# Altium schematic symbol library mySchlib.SchLib: 236 symbols (part 2 of 2)
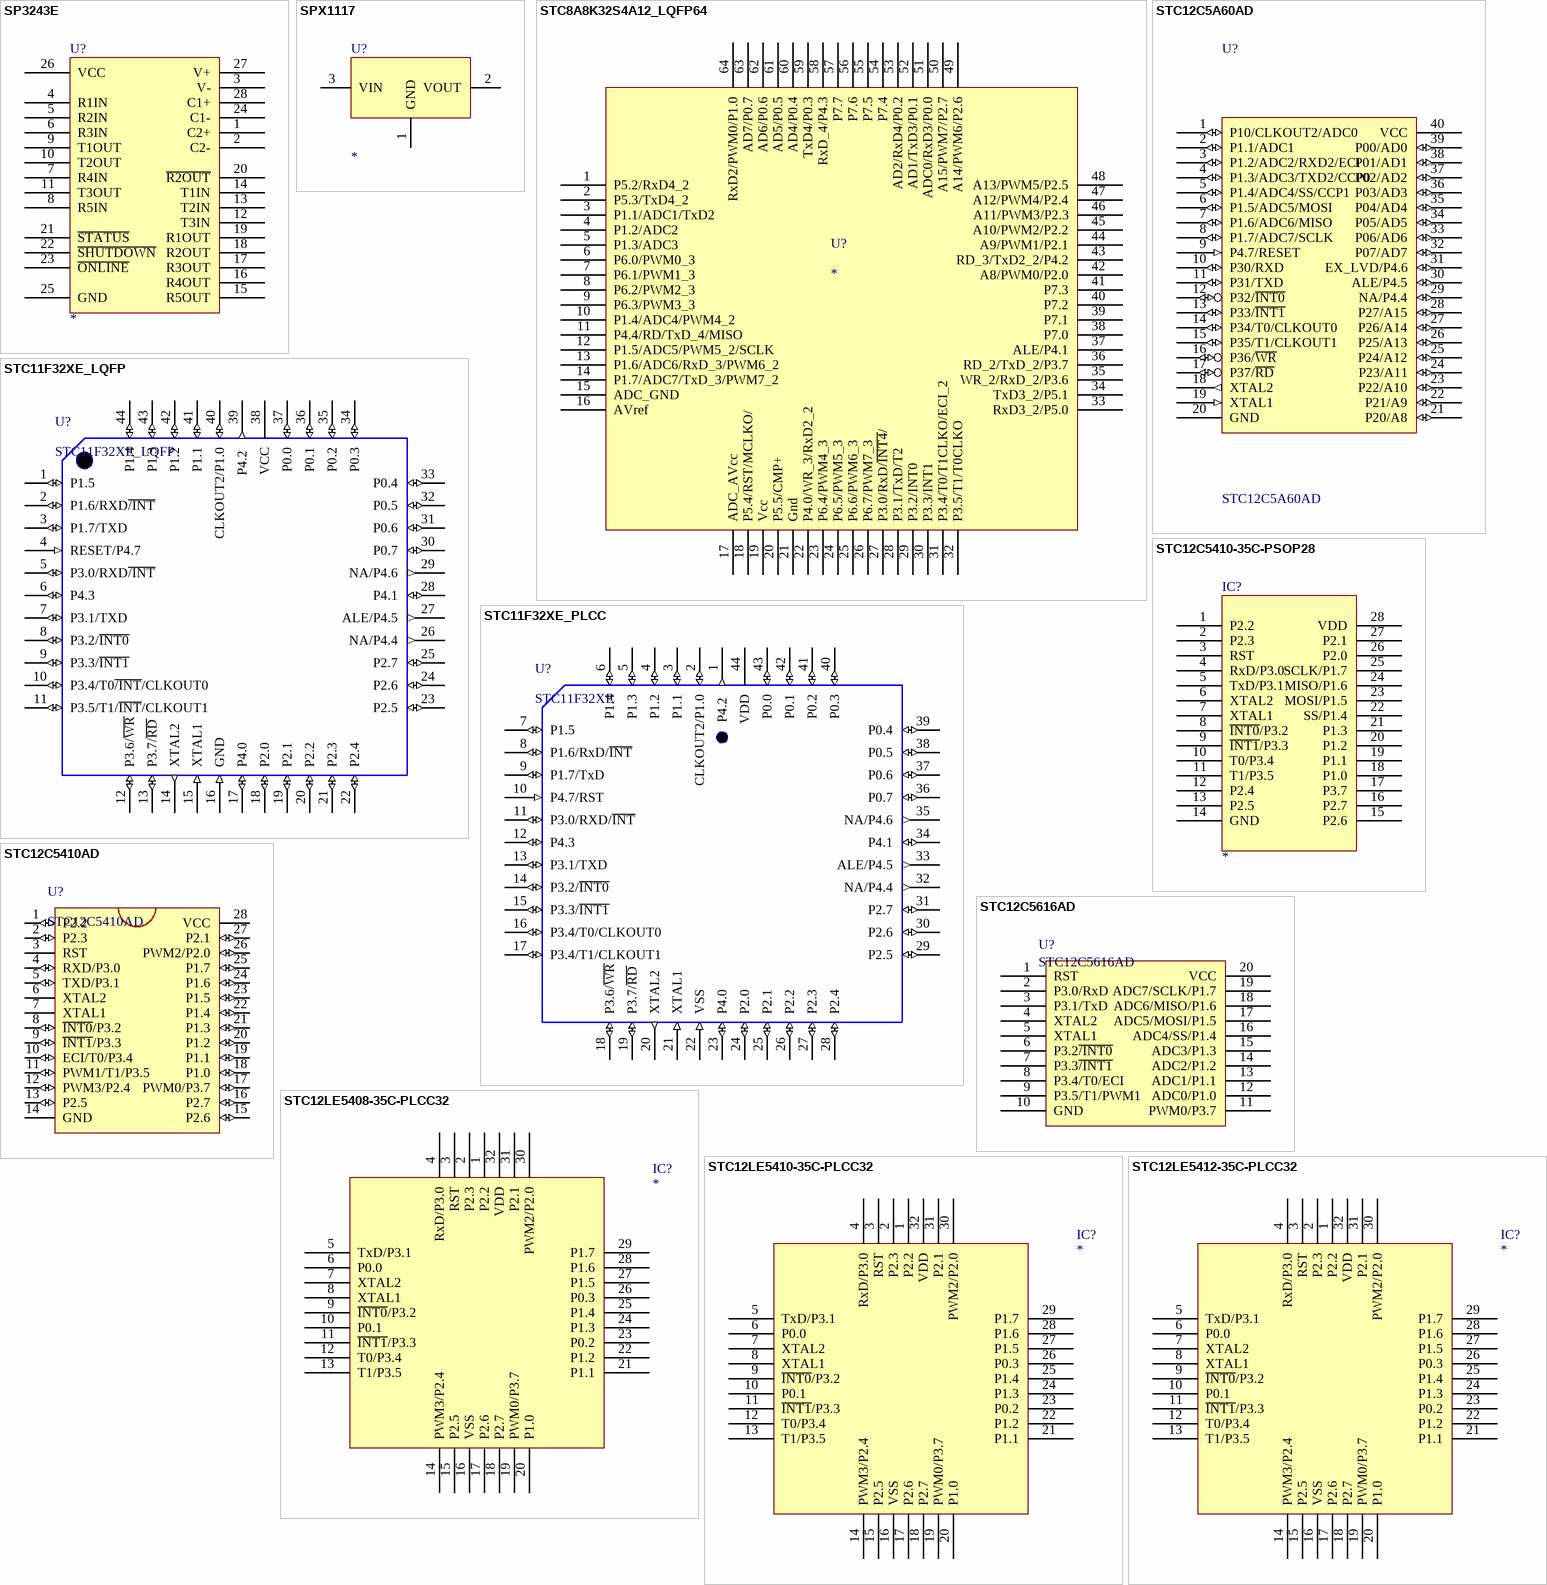
[diagram p14: symbols SP3243E to STC12LE5412-35C-PLCC32]

## STC12C5410-35C-PSOP28
designator IC?
footprint SOP-28
footprint DIP-28
pins: 1 P2.2, 2 P2.3, 3 RST, 4 RxD/P3.0, 5 TxD/P3.1, 6 XTAL2, 7 XTAL1, 8 ~{INT0}/P3.2, 9 ~{INT1}/P3.3, 10 T0/P3.4, 11 T1/P3.5, 12 P2.4, 13 P2.5, 14 GND, 15 P2.6, 16 P2.7, 17 P3.7, 18 P1.0, 19 P1.1, 20 P1.2, 21 P1.3, 22 SS/P1.4, 23 MOSI/P1.5, 24 MISO/P1.6, 25 SCLK/P1.7, 26 P2.0, 27 P2.1, 28 VDD

## STC12C5410AD
designator U?
pins: 1 P2.2 (io), 2 P2.3 (io), 3 RST, 4 RXD/P3.0 (io), 5 TXD/P3.1 (io), 6 XTAL2, 7 XTAL1, 8 ~{INT0}/P3.2 (io), 9 ~{INT1}/P3.3 (io), 10 ECI/T0/P3.4 (io), 11 PWM1/T1/P3.5 (io), 12 PWM3/P2.4 (io), 13 P2.5 (io), 14 GND (power), 15 P2.6 (io), 16 P2.7 (io), 17 PWM0/P3.7 (io), 18 P1.0 (io), 19 P1.1 (io), 20 P1.2 (io), 21 P1.3 (io), 22 P1.4 (io), 23 P1.5 (io), 24 P1.6 (io), 25 P1.7 (io), 26 PWM2/P2.0 (io), 27 P2.1 (io), 28 VCC (power)

## STC12C5616AD
designator U?
footprint STC-SOP20
pins: 1 RST, 2 P3.0/RxD, 3 P3.1/TxD, 4 XTAL2, 5 XTAL1, 6 P3.2~{/INT0}, 7 P3.3~{/INT1}, 8 P3.4/T0/ECI, 9 P3.5/T1/PWM1, 10 GND, 11 PWM0/P3.7, 12 ADC0/P1.0, 13 ADC1/P1.1, 14 ADC2/P1.2, 15 ADC3/P1.3, 16 ADC4/SS/P1.4, 17 ADC5/MOSI/P1.5, 18 ADC6/MISO/P1.6, 19 ADC7/SCLK/P1.7, 20 VCC

## STC12LE5408-35C-PLCC32
designator IC?
footprint TQFP32
pins: 1 P2.2, 2 P2.3, 3 RST, 4 RxD/P3.0, 5 TxD/P3.1, 6 P0.0, 7 XTAL2, 8 XTAL1, 9 ~{INT0}/P3.2, 10 P0.1, 11 ~{INT1}/P3.3, 12 T0/P3.4, 13 T1/P3.5, 14 PWM3/P2.4, 15 P2.5, 16 VSS, 17 P2.6, 18 P2.7, 19 PWM0/P3.7, 20 P1.0, 21 P1.1, 22 P1.2, 23 P0.2, 24 P1.3, 25 P1.4, 26 P0.3, 27 P1.5, 28 P1.6, 29 P1.7, 30 PWM2/P2.0, 31 P2.1, 32 VDD

## STC12LE5410-35C-PLCC32
designator IC?
footprint TQFP32
pins: 1 P2.2, 2 P2.3, 3 RST, 4 RxD/P3.0, 5 TxD/P3.1, 6 P0.0, 7 XTAL2, 8 XTAL1, 9 ~{INT0}/P3.2, 10 P0.1, 11 ~{INT1}/P3.3, 12 T0/P3.4, 13 T1/P3.5, 14 PWM3/P2.4, 15 P2.5, 16 VSS, 17 P2.6, 18 P2.7, 19 PWM0/P3.7, 20 P1.0, 21 P1.1, 22 P1.2, 23 P0.2, 24 P1.3, 25 P1.4, 26 P0.3, 27 P1.5, 28 P1.6, 29 P1.7, 30 PWM2/P2.0, 31 P2.1, 32 VDD

## STC12LE5412-35C-PLCC32
designator IC?
footprint TQFP32
pins: 1 P2.2, 2 P2.3, 3 RST, 4 RxD/P3.0, 5 TxD/P3.1, 6 P0.0, 7 XTAL2, 8 XTAL1, 9 ~{INT0}/P3.2, 10 P0.1, 11 ~{INT1}/P3.3, 12 T0/P3.4, 13 T1/P3.5, 14 PWM3/P2.4, 15 P2.5, 16 VSS, 17 P2.6, 18 P2.7, 19 PWM0/P3.7, 20 P1.0, 21 P1.1, 22 P1.2, 23 P0.2, 24 P1.3, 25 P1.4, 26 P0.3, 27 P1.5, 28 P1.6, 29 P1.7, 30 PWM2/P2.0, 31 P2.1, 32 VDD

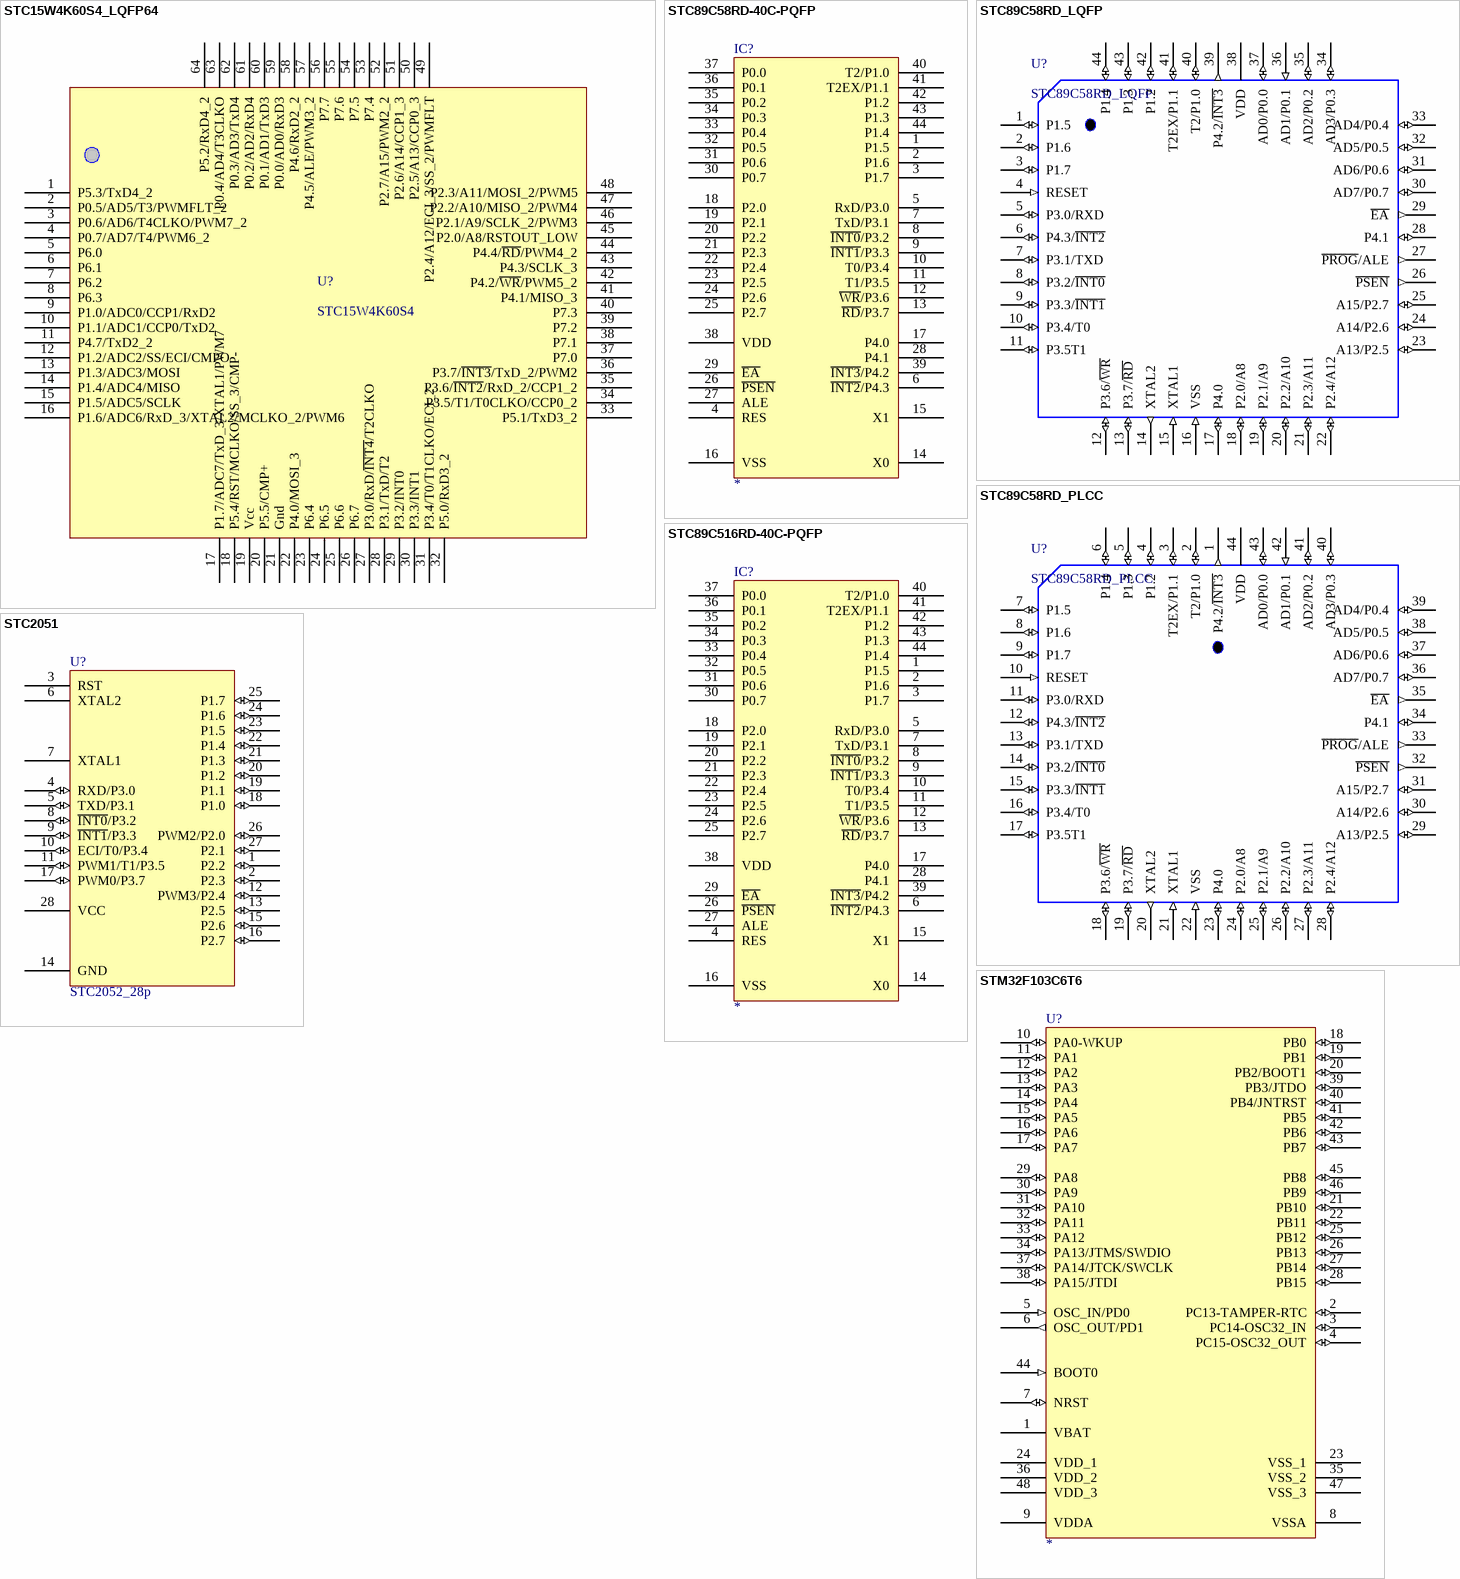
[diagram p8: symbols STC15W4K60S4_LQFP64 to STM32F103C6T6]

## STC15W4K60S4_LQFP64
designator U?, comment STC15W4K60S4
footprint LQFP64S
pins: 1 P5.3/TxD4_2, 2 P0.5/AD5/T3/PWMFLT_2, 3 P0.6/AD6/T4CLKO/PWM7_2, 4 P0.7/AD7/T4/PWM6_2, 5 P6.0, 6 P6.1, 7 P6.2, 8 P6.3, 9 P1.0/ADC0/CCP1/RxD2, 10 P1.1/ADC1/CCP0/TxD2, 11 P4.7/TxD2_2, 12 P1.2/ADC2/SS/ECI/CMPO, 13 P1.3/ADC3/MOSI, 14 P1.4/ADC4/MISO, 15 P1.5/ADC5/SCLK, 16 P1.6/ADC6/RxD_3/XTAL2/MCLKO_2/PWM6, 17 P1.7/ADC7/TxD_3/XTAL1/PWM7, 18 P5.4/RST/MCLKO/SS_3/CMP-, 19 Vcc, 20 P5.5/CMP+, 21 Gnd, 22 P4.0/MOSI_3, 23 P6.4, 24 P6.5, 25 P6.6, 26 P6.7, 27 P3.0/RxD/~{INT4}/T2CLKO, 28 P3.1/TxD/T2, 29 P3.2/INT0, 30 P3.3/INT1, 31 P3.4/T0/T1CLKO/ECI_2, 32 P5.0/RxD3_2, 33 P5.1/TxD3_2, 34 P3.5/T1/T0CLKO/CCP0_2, 35 P3.6/~{INT2}/RxD_2/CCP1_2, 36 P3.7/~{INT3}/TxD_2/PWM2, 37 P7.0, 38 P7.1, 39 P7.2, 40 P7.3, 41 P4.1/MISO_3, 42 P4.2/~{WR}/PWM5_2, 43 P4.3/SCLK_3, 44 P4.4/~{RD}/PWM4_2, 45 P2.0/A8/RSTOUT_LOW, 46 P2.1/A9/SCLK_2/PWM3, 47 P2.2/A10/MISO_2/PWM4, 48 P2.3/A11/MOSI_2/PWM5, 49 P2.4/A12/ECI_3/SS_2/PWMFLT, 50 P2.5/A13/CCP0_3, 51 P2.6/A14/CCP1_3, 52 P2.7/A15/PWM2_2, 53 P7.4, 54 P7.5, 55 P7.6, 56 P7.7, 57 P4.5/ALE/PWM3_2, 58 P4.6/RxD2_2, 59 P0.0/AD0/RxD3, 60 P0.1/AD1/TxD3, 61 P0.2/AD2/RxD4, 62 P0.3/AD3/TxD4, 63 P0.4/AD4/T3CLKO, 64 P5.2/RxD4_2

## STC89C58RD-40C-PQFP
designator IC?
footprint QFP44
pins: 1 P1.5, 2 P1.6, 3 P1.7, 4 RES, 5 RxD/P3.0, 6 ~{INT2}/P4.3, 7 TxD/P3.1, 8 ~{INT0}/P3.2, 9 ~{INT1}/P3.3, 10 T0/P3.4, 11 T1/P3.5, 12 ~{WR}/P3.6, 13 ~{RD}/P3.7, 14 X0, 15 X1, 16 VSS, 17 P4.0, 18 P2.0, 19 P2.1, 20 P2.2, 21 P2.3, 22 P2.4, 23 P2.5, 24 P2.6, 25 P2.7, 26 ~{PSEN}, 27 ALE, 28 P4.1, 29 ~{EA}, 30 P0.7, 31 P0.6, 32 P0.5, 33 P0.4, 34 P0.3, 35 P0.2, 36 P0.1, 37 P0.0, 38 VDD, 39 ~{INT3}/P4.2, 40 T2/P1.0, 41 T2EX/P1.1, 42 P1.2, 43 P1.3, 44 P1.4

## STC89C58RD_LQFP
designator U?
footprint QFP44
pins: 1 P1.5 (io), 2 P1.6 (io), 3 P1.7 (io), 4 RESET (in), 5 P3.0/RXD (io), 6 P4.3/~{INT2} (io), 7 P3.1/TXD (io), 8 P3.2/~{INT0} (io), 9 P3.3/~{INT1} (io), 10 P3.4/T0 (io), 11 P3.5T1 (io), 12 P3.6/~{WR} (io), 13 P3.7/~{RD} (io), 14 XTAL2 (out), 15 XTAL1 (in), 16 VSS (in), 17 P4.0 (io), 18 P2.0/A8 (io), 19 P2.1/A9 (io), 20 P2.2/A10 (io), 21 P2.3/A11 (io), 22 P2.4/A12 (io), 23 A13/P2.5 (io), 24 A14/P2.6 (io), 25 A15/P2.7 (io), 26 ~{PSEN} (out), 27 ~{PROG}/ALE (out), 28 P4.1 (io), 29 ~{EA} (out), 30 AD7/P0.7 (io), 31 AD6/P0.6 (io), 32 AD5/P0.5 (io), 33 AD4/P0.4 (io), 34 AD3/P0.3 (io), 35 AD2/P0.2 (io), 36 AD1/P0.1 (in), 37 AD0/P0.0 (io), 38 VDD (power), 39 P4.2/~{INT3} (out), 40 T2/P1.0 (io), 41 T2EX/P1.1 (io), 42 P1.2 (io), 43 P1.3 (io), 44 P1.4 (io)

## STC89C58RD_PLCC
designator U?
footprint PLCC44
pins: 1 P4.2/~{INT3} (out), 2 T2/P1.0 (io), 3 T2EX/P1.1 (io), 4 P1.2 (io), 5 P1.3 (io), 6 P1.4 (io), 7 P1.5 (io), 8 P1.6 (io), 9 P1.7 (io), 10 RESET (in), 11 P3.0/RXD (io), 12 P4.3/~{INT2} (io), 13 P3.1/TXD (io), 14 P3.2/~{INT0} (io), 15 P3.3/~{INT1} (io), 16 P3.4/T0 (io), 17 P3.5T1 (io), 18 P3.6/~{WR} (io), 19 P3.7/~{RD} (io), 20 XTAL2 (out), 21 XTAL1 (in), 22 VSS (in), 23 P4.0 (io), 24 P2.0/A8 (io), 25 P2.1/A9 (io), 26 P2.2/A10 (io), 27 P2.3/A11 (io), 28 P2.4/A12 (io), 29 A13/P2.5 (io), 30 A14/P2.6 (io), 31 A15/P2.7 (io), 32 ~{PSEN} (out), 33 ~{PROG}/ALE (out), 34 P4.1 (io), 35 ~{EA} (out), 36 AD7/P0.7 (io), 37 AD6/P0.6 (io), 38 AD5/P0.5 (io), 39 AD4/P0.4 (io), 40 AD3/P0.3 (io), 41 AD2/P0.2 (io), 42 AD1/P0.1 (in), 43 AD0/P0.0 (io), 44 VDD (power)

## STC89C516RD-40C-PQFP
designator IC?
footprint QFP44
pins: 1 P1.5, 2 P1.6, 3 P1.7, 4 RES, 5 RxD/P3.0, 6 ~{INT2}/P4.3, 7 TxD/P3.1, 8 ~{INT0}/P3.2, 9 ~{INT1}/P3.3, 10 T0/P3.4, 11 T1/P3.5, 12 ~{WR}/P3.6, 13 ~{RD}/P3.7, 14 X0, 15 X1, 16 VSS, 17 P4.0, 18 P2.0, 19 P2.1, 20 P2.2, 21 P2.3, 22 P2.4, 23 P2.5, 24 P2.6, 25 P2.7, 26 ~{PSEN}, 27 ALE, 28 P4.1, 29 ~{EA}, 30 P0.7, 31 P0.6, 32 P0.5, 33 P0.4, 34 P0.3, 35 P0.2, 36 P0.1, 37 P0.0, 38 VDD, 39 ~{INT3}/P4.2, 40 T2/P1.0, 41 T2EX/P1.1, 42 P1.2, 43 P1.3, 44 P1.4

## STC2051
designator U?, comment STC2052_28p
footprint CDIP28
pins: 1 P2.2 (io), 2 P2.3 (io), 3 RST, 4 RXD/P3.0 (io), 5 TXD/P3.1 (io), 6 XTAL2, 7 XTAL1, 8 ~{INT0}/P3.2 (io), 9 ~{INT1}/P3.3 (io), 10 ECI/T0/P3.4 (io), 11 PWM1/T1/P3.5 (io), 12 PWM3/P2.4 (io), 13 P2.5 (io), 14 GND (power), 15 P2.6 (io), 16 P2.7 (io), 17 PWM0/P3.7 (io), 18 P1.0 (io), 19 P1.1 (io), 20 P1.2 (io), 21 P1.3 (io), 22 P1.4 (io), 23 P1.5 (io), 24 P1.6 (io), 25 P1.7 (io), 26 PWM2/P2.0 (io), 27 P2.1 (io), 28 VCC (power)

## STM32F103C6T6
designator U?
STM32 ARM-based 32-bit MCU with 32 Kbytes Flash, 48-pin LQFP, Industrial Temperature; Published: *; DatasheetVersion: *; PackageVersion: *; PackageReference: *; Publisher: *; PackageDescription: *; ComponentLink1Description: *; ComponentLink1URL: *; ComponentLink2Description: *; ComponentLink2URL: *
footprint LQFP48_N
footprint LQFP48_L
footprint LQFP48_M
pins: 1 VBAT (power), 2 PC13-TAMPER-RTC (io), 3 PC14-OSC32_IN (io), 4 PC15-OSC32_OUT (io), 5 OSC_IN/PD0 (in), 6 OSC_OUT/PD1 (out), 7 NRST (io), 8 VSSA (power), 9 VDDA (power), 10 PA0-WKUP (io), 11 PA1 (io), 12 PA2 (io), 13 PA3 (io), 14 PA4 (io), 15 PA5 (io), 16 PA6 (io), 17 PA7 (io), 18 PB0 (io), 19 PB1 (io), 20 PB2/BOOT1 (io), 21 PB10 (io), 22 PB11 (io), 23 VSS_1 (power), 24 VDD_1 (power), 25 PB12 (io), 26 PB13 (io), 27 PB14 (io), 28 PB15 (io), 29 PA8 (io), 30 PA9 (io), 31 PA10 (io), 32 PA11 (io), 33 PA12 (io), 34 PA13/JTMS/SWDIO (io), 35 VSS_2 (power), 36 VDD_2 (power), 37 PA14/JTCK/SWCLK (io), 38 PA15/JTDI (io), 39 PB3/JTDO (io), 40 PB4/JNTRST (io), 41 PB5 (io), 42 PB6 (io), 43 PB7 (io), 44 BOOT0 (in), 45 PB8 (io), 46 PB9 (io), 47 VSS_3 (power), 48 VDD_3 (power)
2 alternate drawings of the same symbol

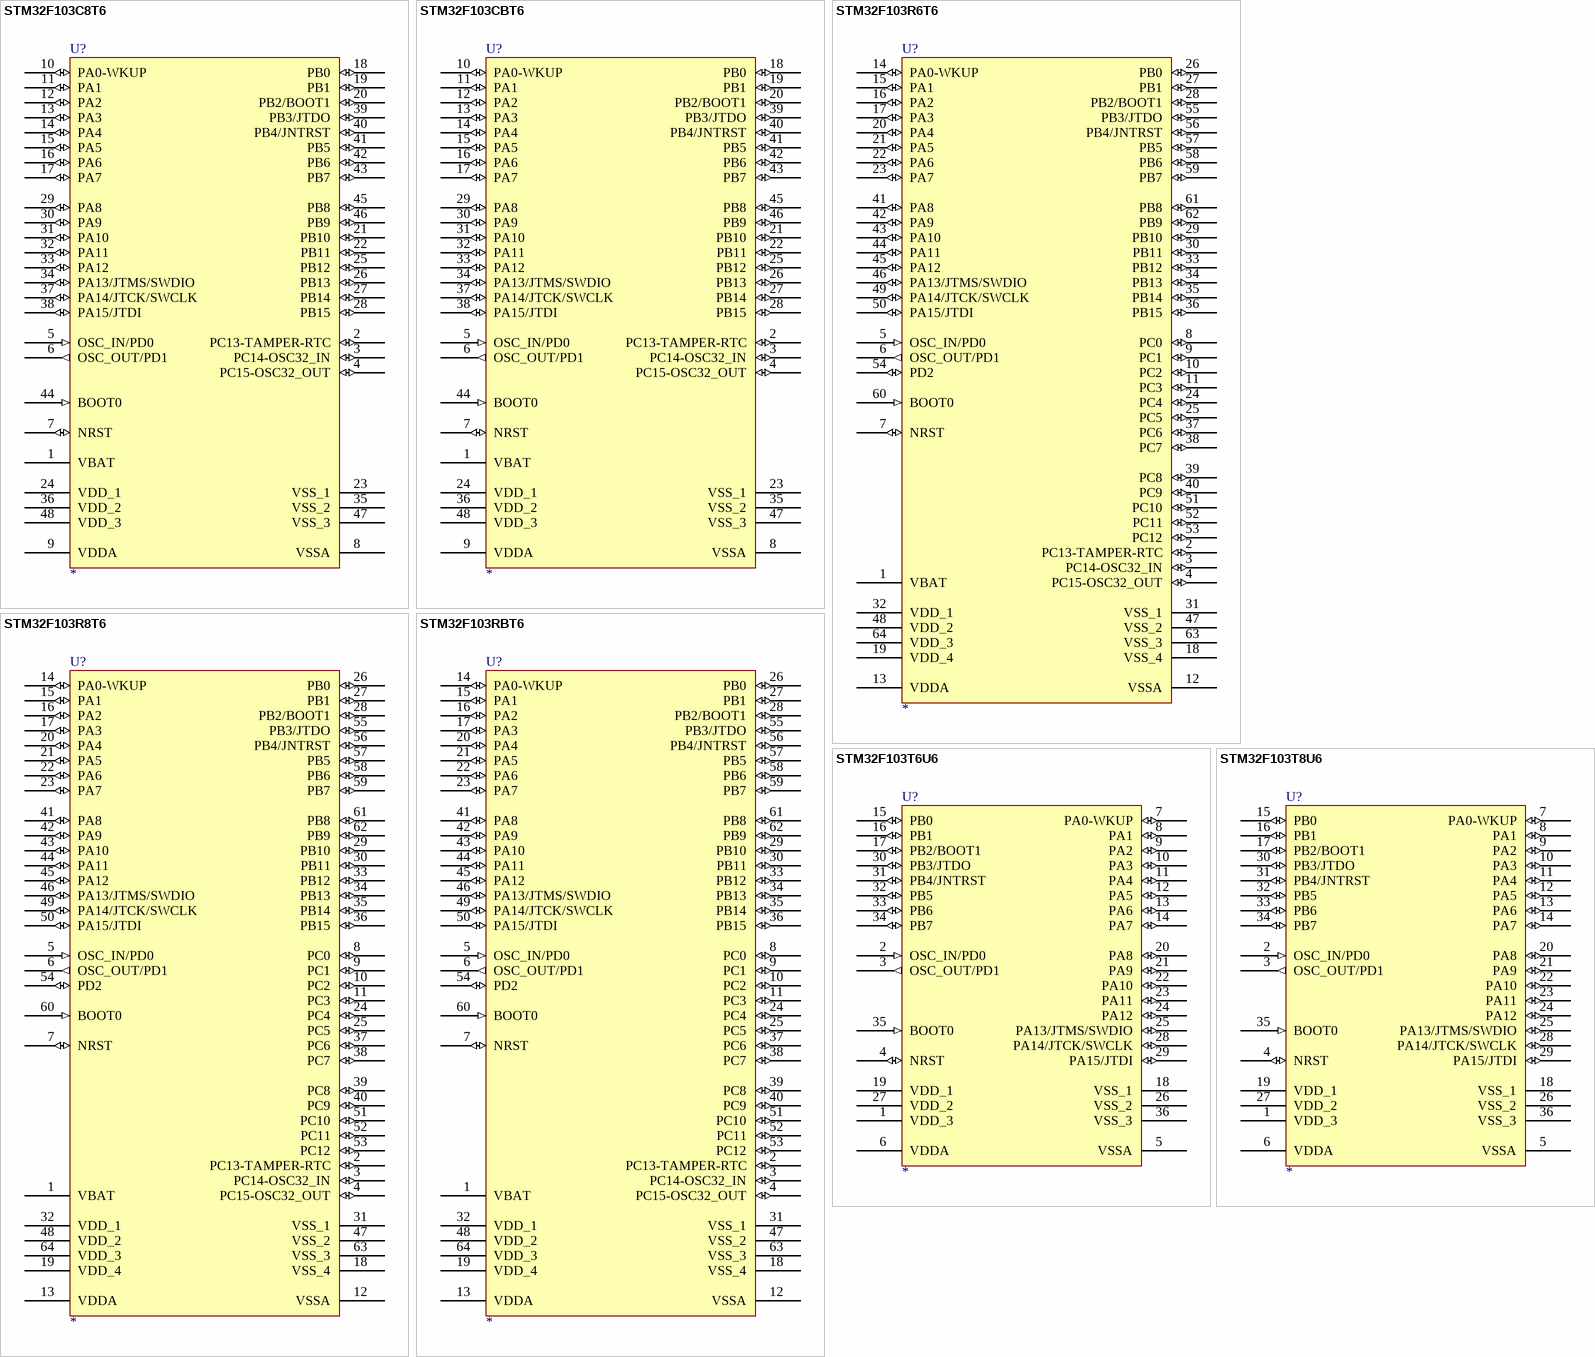
[diagram p9: symbols STM32F103C8T6 to STM32F103T8U6]

## STM32F103C8T6
designator U?
STM32 ARM-based 32-bit MCU with 64 Kbytes Flash, 48-pin LQFP, Industrial Temperature; Published: *; DatasheetVersion: *; PackageVersion: *; PackageReference: *; Publisher: *; PackageDescription: *; ComponentLink1Description: *; ComponentLink1URL: *; ComponentLink2Description: *; ComponentLink2URL: *
footprint LQFP48_N
footprint LQFP48_L
footprint LQFP48_M
pins: 1 VBAT (power), 2 PC13-TAMPER-RTC (io), 3 PC14-OSC32_IN (io), 4 PC15-OSC32_OUT (io), 5 OSC_IN/PD0 (in), 6 OSC_OUT/PD1 (out), 7 NRST (io), 8 VSSA (power), 9 VDDA (power), 10 PA0-WKUP (io), 11 PA1 (io), 12 PA2 (io), 13 PA3 (io), 14 PA4 (io), 15 PA5 (io), 16 PA6 (io), 17 PA7 (io), 18 PB0 (io), 19 PB1 (io), 20 PB2/BOOT1 (io), 21 PB10 (io), 22 PB11 (io), 23 VSS_1 (power), 24 VDD_1 (power), 25 PB12 (io), 26 PB13 (io), 27 PB14 (io), 28 PB15 (io), 29 PA8 (io), 30 PA9 (io), 31 PA10 (io), 32 PA11 (io), 33 PA12 (io), 34 PA13/JTMS/SWDIO (io), 35 VSS_2 (power), 36 VDD_2 (power), 37 PA14/JTCK/SWCLK (io), 38 PA15/JTDI (io), 39 PB3/JTDO (io), 40 PB4/JNTRST (io), 41 PB5 (io), 42 PB6 (io), 43 PB7 (io), 44 BOOT0 (in), 45 PB8 (io), 46 PB9 (io), 47 VSS_3 (power), 48 VDD_3 (power)
2 alternate drawings of the same symbol

## STM32F103CBT6
designator U?
STM32 ARM-based 32-bit MCU with 128 Kbytes Flash, 48-pin LQFP, Industrial Temperature; Published: *; DatasheetVersion: *; PackageVersion: *; PackageReference: *; Publisher: *; PackageDescription: *; ComponentLink1Description: *; ComponentLink1URL: *; ComponentLink2Description: *; ComponentLink2URL: *
footprint LQFP48_N
footprint LQFP48_L
footprint LQFP48_M
pins: 1 VBAT (power), 2 PC13-TAMPER-RTC (io), 3 PC14-OSC32_IN (io), 4 PC15-OSC32_OUT (io), 5 OSC_IN/PD0 (in), 6 OSC_OUT/PD1 (out), 7 NRST (io), 8 VSSA (power), 9 VDDA (power), 10 PA0-WKUP (io), 11 PA1 (io), 12 PA2 (io), 13 PA3 (io), 14 PA4 (io), 15 PA5 (io), 16 PA6 (io), 17 PA7 (io), 18 PB0 (io), 19 PB1 (io), 20 PB2/BOOT1 (io), 21 PB10 (io), 22 PB11 (io), 23 VSS_1 (power), 24 VDD_1 (power), 25 PB12 (io), 26 PB13 (io), 27 PB14 (io), 28 PB15 (io), 29 PA8 (io), 30 PA9 (io), 31 PA10 (io), 32 PA11 (io), 33 PA12 (io), 34 PA13/JTMS/SWDIO (io), 35 VSS_2 (power), 36 VDD_2 (power), 37 PA14/JTCK/SWCLK (io), 38 PA15/JTDI (io), 39 PB3/JTDO (io), 40 PB4/JNTRST (io), 41 PB5 (io), 42 PB6 (io), 43 PB7 (io), 44 BOOT0 (in), 45 PB8 (io), 46 PB9 (io), 47 VSS_3 (power), 48 VDD_3 (power)
2 alternate drawings of the same symbol

## STM32F103R6T6
designator U?
STM32 ARM-based 32-bit MCU with 32 Kbytes Flash, 64-pin LQFP, Industrial Temperature; Published: *; DatasheetVersion: *; PackageVersion: *; PackageReference: *; Publisher: *; PackageDescription: *; ComponentLink1Description: *; ComponentLink1URL: *; ComponentLink2Description: *; ComponentLink2URL: *
footprint LQFP64_N
footprint LQFP64_L
footprint LQFP64_M
pins: 1 VBAT (power), 2 PC13-TAMPER-RTC (io), 3 PC14-OSC32_IN (io), 4 PC15-OSC32_OUT (io), 5 OSC_IN/PD0 (in), 6 OSC_OUT/PD1 (out), 7 NRST (io), 8 PC0 (io), 9 PC1 (io), 10 PC2 (io), 11 PC3 (io), 12 VSSA (power), 13 VDDA (power), 14 PA0-WKUP (io), 15 PA1 (io), 16 PA2 (io), 17 PA3 (io), 18 VSS_4 (power), 19 VDD_4 (power), 20 PA4 (io), 21 PA5 (io), 22 PA6 (io), 23 PA7 (io), 24 PC4 (io), 25 PC5 (io), 26 PB0 (io), 27 PB1 (io), 28 PB2/BOOT1 (io), 29 PB10 (io), 30 PB11 (io), 31 VSS_1 (power), 32 VDD_1 (power), 33 PB12 (io), 34 PB13 (io), 35 PB14 (io), 36 PB15 (io), 37 PC6 (io), 38 PC7 (io), 39 PC8 (io), 40 PC9 (io), 41 PA8 (io), 42 PA9 (io), 43 PA10 (io), 44 PA11 (io), 45 PA12 (io), 46 PA13/JTMS/SWDIO (io), 47 VSS_2 (power), 48 VDD_2 (power), 49 PA14/JTCK/SWCLK (io), 50 PA15/JTDI (io), 51 PC10 (io), 52 PC11 (io), 53 PC12 (io), 54 PD2 (io), 55 PB3/JTDO (io), 56 PB4/JNTRST (io), 57 PB5 (io), 58 PB6 (io), 59 PB7 (io), 60 BOOT0 (in), 61 PB8 (io), 62 PB9 (io), 63 VSS_3 (power), 64 VDD_3 (power)
2 alternate drawings of the same symbol

## STM32F103R8T6
designator U?
STM32 ARM-based 32-bit MCU with 64 Kbytes Flash, 64-pin LQFP, Industrial Temperature; Published: *; DatasheetVersion: *; PackageVersion: *; PackageReference: *; Publisher: *; PackageDescription: *; ComponentLink1Description: *; ComponentLink1URL: *; ComponentLink2Description: *; ComponentLink2URL: *
footprint LQFP64_N
footprint LQFP64_L
footprint LQFP64_M
pins: 1 VBAT (power), 2 PC13-TAMPER-RTC (io), 3 PC14-OSC32_IN (io), 4 PC15-OSC32_OUT (io), 5 OSC_IN/PD0 (in), 6 OSC_OUT/PD1 (out), 7 NRST (io), 8 PC0 (io), 9 PC1 (io), 10 PC2 (io), 11 PC3 (io), 12 VSSA (power), 13 VDDA (power), 14 PA0-WKUP (io), 15 PA1 (io), 16 PA2 (io), 17 PA3 (io), 18 VSS_4 (power), 19 VDD_4 (power), 20 PA4 (io), 21 PA5 (io), 22 PA6 (io), 23 PA7 (io), 24 PC4 (io), 25 PC5 (io), 26 PB0 (io), 27 PB1 (io), 28 PB2/BOOT1 (io), 29 PB10 (io), 30 PB11 (io), 31 VSS_1 (power), 32 VDD_1 (power), 33 PB12 (io), 34 PB13 (io), 35 PB14 (io), 36 PB15 (io), 37 PC6 (io), 38 PC7 (io), 39 PC8 (io), 40 PC9 (io), 41 PA8 (io), 42 PA9 (io), 43 PA10 (io), 44 PA11 (io), 45 PA12 (io), 46 PA13/JTMS/SWDIO (io), 47 VSS_2 (power), 48 VDD_2 (power), 49 PA14/JTCK/SWCLK (io), 50 PA15/JTDI (io), 51 PC10 (io), 52 PC11 (io), 53 PC12 (io), 54 PD2 (io), 55 PB3/JTDO (io), 56 PB4/JNTRST (io), 57 PB5 (io), 58 PB6 (io), 59 PB7 (io), 60 BOOT0 (in), 61 PB8 (io), 62 PB9 (io), 63 VSS_3 (power), 64 VDD_3 (power)
2 alternate drawings of the same symbol

## STM32F103RBT6
designator U?
STM32 ARM-based 32-bit MCU with 128 Kbytes Flash, 64-pin LQFP, Industrial Temperature; Published: *; DatasheetVersion: *; PackageVersion: *; PackageReference: *; Publisher: *; PackageDescription: *; ComponentLink1Description: *; ComponentLink1URL: *; ComponentLink2Description: *; ComponentLink2URL: *
footprint LQFP64_N
footprint LQFP64_L
footprint LQFP64_M
pins: 1 VBAT (power), 2 PC13-TAMPER-RTC (io), 3 PC14-OSC32_IN (io), 4 PC15-OSC32_OUT (io), 5 OSC_IN/PD0 (in), 6 OSC_OUT/PD1 (out), 7 NRST (io), 8 PC0 (io), 9 PC1 (io), 10 PC2 (io), 11 PC3 (io), 12 VSSA (power), 13 VDDA (power), 14 PA0-WKUP (io), 15 PA1 (io), 16 PA2 (io), 17 PA3 (io), 18 VSS_4 (power), 19 VDD_4 (power), 20 PA4 (io), 21 PA5 (io), 22 PA6 (io), 23 PA7 (io), 24 PC4 (io), 25 PC5 (io), 26 PB0 (io), 27 PB1 (io), 28 PB2/BOOT1 (io), 29 PB10 (io), 30 PB11 (io), 31 VSS_1 (power), 32 VDD_1 (power), 33 PB12 (io), 34 PB13 (io), 35 PB14 (io), 36 PB15 (io), 37 PC6 (io), 38 PC7 (io), 39 PC8 (io), 40 PC9 (io), 41 PA8 (io), 42 PA9 (io), 43 PA10 (io), 44 PA11 (io), 45 PA12 (io), 46 PA13/JTMS/SWDIO (io), 47 VSS_2 (power), 48 VDD_2 (power), 49 PA14/JTCK/SWCLK (io), 50 PA15/JTDI (io), 51 PC10 (io), 52 PC11 (io), 53 PC12 (io), 54 PD2 (io), 55 PB3/JTDO (io), 56 PB4/JNTRST (io), 57 PB5 (io), 58 PB6 (io), 59 PB7 (io), 60 BOOT0 (in), 61 PB8 (io), 62 PB9 (io), 63 VSS_3 (power), 64 VDD_3 (power)
2 alternate drawings of the same symbol

## STM32F103T6U6
designator U?
STM32 ARM-based 32-bit MCU with 32 Kbytes Flash, 36-pin VFQFPN, Industrial Temperature; Published: *; DatasheetVersion: *; PackageVersion: *; PackageReference: *; Publisher: *; PackageDescription: *; ComponentLink1Description: *; ComponentLink1URL: *; ComponentLink2Description: *; ComponentLink2URL: *
footprint VFQN36_V
footprint VFQN36_N
footprint VFQN36_L
footprint VFQN36_M
pins: 1 VDD_3 (power), 2 OSC_IN/PD0 (in), 3 OSC_OUT/PD1 (out), 4 NRST (io), 5 VSSA (power), 6 VDDA (power), 7 PA0-WKUP (io), 8 PA1 (io), 9 PA2 (io), 10 PA3 (io), 11 PA4 (io), 12 PA5 (io), 13 PA6 (io), 14 PA7 (io), 15 PB0 (io), 16 PB1 (io), 17 PB2/BOOT1 (io), 18 VSS_1 (power), 19 VDD_1 (power), 20 PA8 (io), 21 PA9 (io), 22 PA10 (io), 23 PA11 (io), 24 PA12 (io), 25 PA13/JTMS/SWDIO (io), 26 VSS_2 (power), 27 VDD_2 (power), 28 PA14/JTCK/SWCLK (io), 29 PA15/JTDI (io), 30 PB3/JTDO (io), 31 PB4/JNTRST (io), 32 PB5 (io), 33 PB6 (io), 34 PB7 (io), 35 BOOT0 (in), 36 VSS_3 (power)
2 alternate drawings of the same symbol

## STM32F103T8U6
designator U?
STM32 ARM-based 32-bit MCU with 64 Kbytes Flash, 36-pin VFQFPN, Industrial Temperature; Published: *; DatasheetVersion: *; PackageVersion: *; PackageReference: *; Publisher: *; PackageDescription: *; ComponentLink1Description: *; ComponentLink1URL: *; ComponentLink2Description: *; ComponentLink2URL: *
footprint VFQN36_V
footprint VFQN36_N
footprint VFQN36_L
footprint VFQN36_M
pins: 1 VDD_3 (power), 2 OSC_IN/PD0 (in), 3 OSC_OUT/PD1 (out), 4 NRST (io), 5 VSSA (power), 6 VDDA (power), 7 PA0-WKUP (io), 8 PA1 (io), 9 PA2 (io), 10 PA3 (io), 11 PA4 (io), 12 PA5 (io), 13 PA6 (io), 14 PA7 (io), 15 PB0 (io), 16 PB1 (io), 17 PB2/BOOT1 (io), 18 VSS_1 (power), 19 VDD_1 (power), 20 PA8 (io), 21 PA9 (io), 22 PA10 (io), 23 PA11 (io), 24 PA12 (io), 25 PA13/JTMS/SWDIO (io), 26 VSS_2 (power), 27 VDD_2 (power), 28 PA14/JTCK/SWCLK (io), 29 PA15/JTDI (io), 30 PB3/JTDO (io), 31 PB4/JNTRST (io), 32 PB5 (io), 33 PB6 (io), 34 PB7 (io), 35 BOOT0 (in), 36 VSS_3 (power)
2 alternate drawings of the same symbol

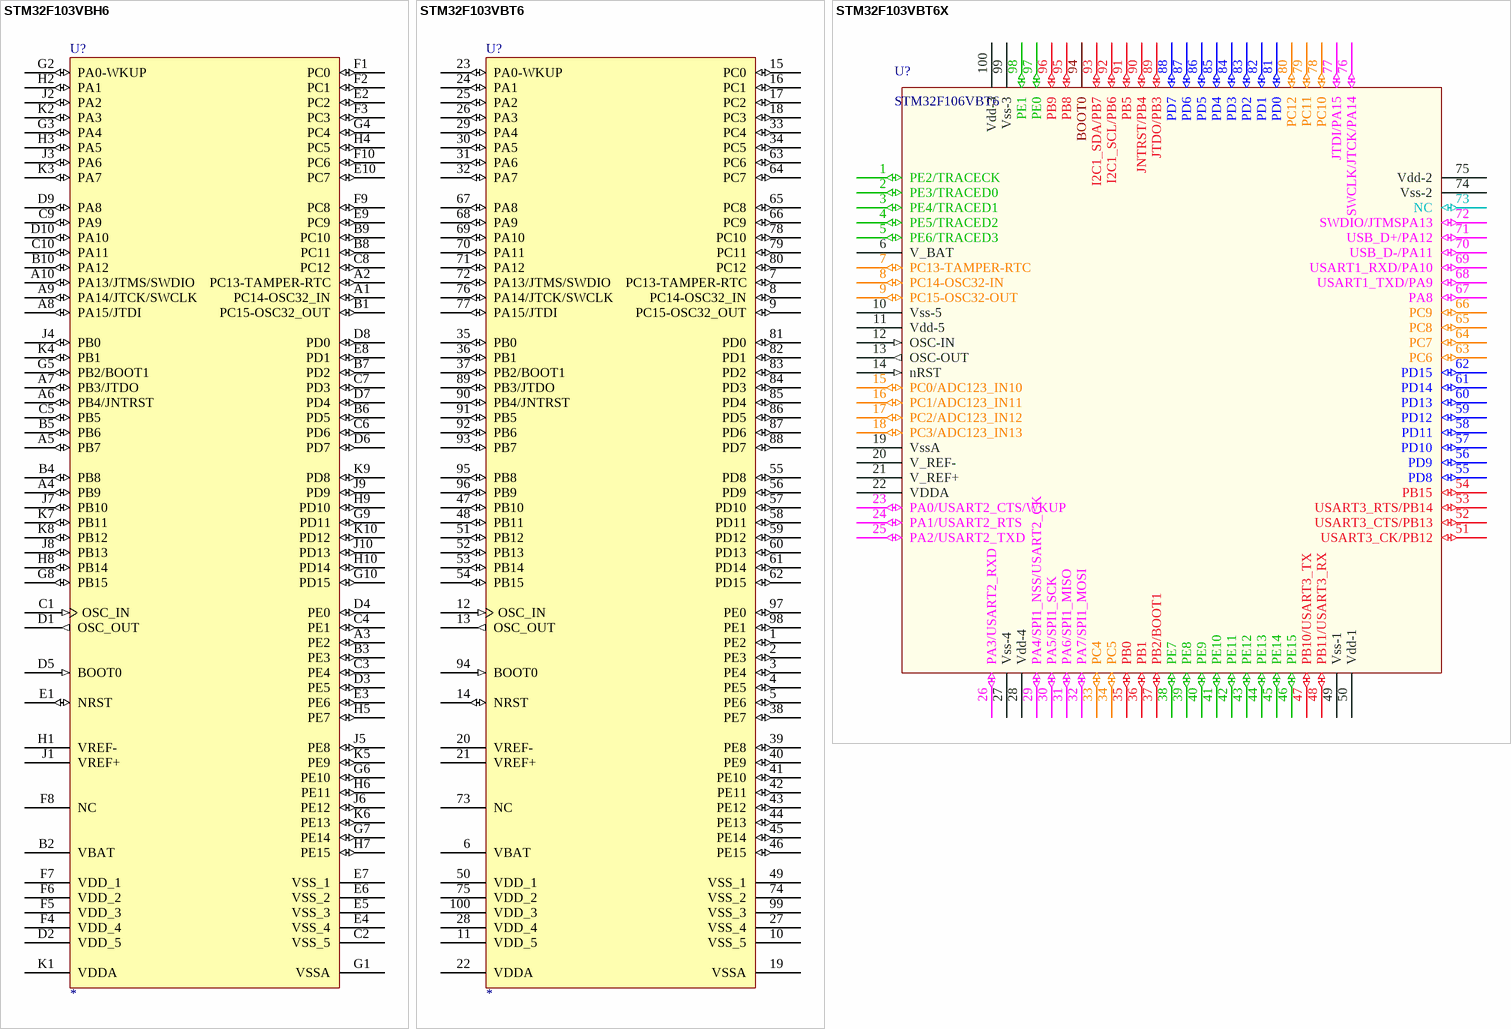
[diagram p10: symbols STM32F103VBH6 to STM32F103VBT6X]

## STM32F103VBH6
designator U?
STM32 ARM-based 32-bit MCU with 128 Kbytes Flash, 100-pin BGA, Industrial Temperature; Published: *; DatasheetVersion: *; PackageVersion: *; PackageReference: *; Publisher: *; PackageDescription: *; ComponentLink1Description: *; ComponentLink1URL: *; ComponentLink2Description: *; ComponentLink2URL: *
footprint LFBGA100
pins: A1 PC14-OSC32_IN (io), A2 PC13-TAMPER-RTC (io), A3 PE2 (io), A4 PB9 (io), A5 PB7 (io), A6 PB4/JNTRST (io), A7 PB3/JTDO (io), A8 PA15/JTDI (io), A9 PA14/JTCK/SWCLK (io), A10 PA13/JTMS/SWDIO (io), B1 PC15-OSC32_OUT (io), B2 VBAT (power), B3 PE3 (io), B4 PB8 (io), B5 PB6 (io), B6 PD5 (io), B7 PD2 (io), B8 PC11 (io), B9 PC10 (io), B10 PA12 (io), C1 OSC_IN (in), C2 VSS_5 (power), C3 PE4 (io), C4 PE1 (io), C5 PB5 (io), C6 PD6 (io), C7 PD3 (io), C8 PC12 (io), C9 PA9 (io), C10 PA11 (io), D1 OSC_OUT (out), D2 VDD_5 (power), D3 PE5 (io), D4 PE0 (io), D5 BOOT0 (in), D6 PD7 (io), D7 PD4 (io), D8 PD0 (io), D9 PA8 (io), D10 PA10 (io), E1 NRST (io), E2 PC2 (io), E3 PE6 (io), E4 VSS_4 (power), E5 VSS_3 (power), E6 VSS_2 (power), E7 VSS_1 (power), E8 PD1 (io), E9 PC9 (io), E10 PC7 (io), F1 PC0 (io), F2 PC1 (io), F3 PC3 (io), F4 VDD_4 (power), F5 VDD_3 (power), F6 VDD_2 (power), F7 VDD_1 (power), F8 NC, F9 PC8 (io), F10 PC6 (io), G1 VSSA (power), G2 PA0-WKUP (io), G3 PA4 (io), G4 PC4 (io), G5 PB2/BOOT1 (io), G6 PE10 (io), G7 PE14 (io), G8 PB15 (io), G9 PD11 (io), G10 PD15 (io), H1 VREF- (power), H2 PA1 (io), H3 PA5 (io), H4 PC5 (io), H5 PE7 (io), H6 PE11 (io), H7 PE15 (io), H8 PB14 (io), H9 PD10 (io), H10 PD14 (io), J1 VREF+ (power), J2 PA2 (io), J3 PA6 (io), J4 PB0 (io), J5 PE8 (io), J6 PE12 (io), J7 PB10 (io), J8 PB13 (io), J9 PD9 (io), J10 PD13 (io), K1 VDDA (power), K2 PA3 (io), K3 PA7 (io), K4 PB1 (io), K5 PE9 (io), K6 PE13 (io), K7 PB11 (io), K8 PB12 (io), K9 PD8 (io), K10 PD12 (io)
2 alternate drawings of the same symbol

## STM32F103VBT6
designator U?
STM32 ARM-based 32-bit MCU with 64 Kbytes Flash, 100-pin LQFP, Industrial Temperature; Published: *; DatasheetVersion: *; PackageVersion: *; PackageReference: *; Publisher: *; PackageDescription: *; ComponentLink1Description: *; ComponentLink1URL: *; ComponentLink2Description: *; ComponentLink2URL: *
footprint LQFP100_N
footprint LQFP100_L
footprint LQFP100_M
pins: 1 PE2 (io), 2 PE3 (io), 3 PE4 (io), 4 PE5 (io), 5 PE6 (io), 6 VBAT (power), 7 PC13-TAMPER-RTC (io), 8 PC14-OSC32_IN (io), 9 PC15-OSC32_OUT (io), 10 VSS_5 (power), 11 VDD_5 (power), 12 OSC_IN (in), 13 OSC_OUT (out), 14 NRST (io), 15 PC0 (io), 16 PC1 (io), 17 PC2 (io), 18 PC3 (io), 19 VSSA (power), 20 VREF- (power), 21 VREF+ (power), 22 VDDA (power), 23 PA0-WKUP (io), 24 PA1 (io), 25 PA2 (io), 26 PA3 (io), 27 VSS_4 (power), 28 VDD_4 (power), 29 PA4 (io), 30 PA5 (io), 31 PA6 (io), 32 PA7 (io), 33 PC4 (io), 34 PC5 (io), 35 PB0 (io), 36 PB1 (io), 37 PB2/BOOT1 (io), 38 PE7 (io), 39 PE8 (io), 40 PE9 (io), 41 PE10 (io), 42 PE11 (io), 43 PE12 (io), 44 PE13 (io), 45 PE14 (io), 46 PE15 (io), 47 PB10 (io), 48 PB11 (io), 49 VSS_1 (power), 50 VDD_1 (power), 51 PB12 (io), 52 PB13 (io), 53 PB14 (io), 54 PB15 (io), 55 PD8 (io), 56 PD9 (io), 57 PD10 (io), 58 PD11 (io), 59 PD12 (io), 60 PD13 (io), 61 PD14 (io), 62 PD15 (io), 63 PC6 (io), 64 PC7 (io), 65 PC8 (io), 66 PC9 (io), 67 PA8 (io), 68 PA9 (io), 69 PA10 (io), 70 PA11 (io), 71 PA12 (io), 72 PA13/JTMS/SWDIO (io), 73 NC, 74 VSS_2 (power), 75 VDD_2 (power), 76 PA14/JTCK/SWCLK (io), 77 PA15/JTDI (io), 78 PC10 (io), 79 PC11 (io), 80 PC12 (io), 81 PD0 (io), 82 PD1 (io), 83 PD2 (io), 84 PD3 (io), 85 PD4 (io), 86 PD5 (io), 87 PD6 (io), 88 PD7 (io), 89 PB3/JTDO (io), 90 PB4/JNTRST (io), 91 PB5 (io), 92 PB6 (io), 93 PB7 (io), 94 BOOT0 (in), 95 PB8 (io), 96 PB9 (io), 97 PE0 (io), 98 PE1 (io), 99 VSS_3 (power), 100 VDD_3 (power)
2 alternate drawings of the same symbol

## STM32F103VBT6X
designator U?, comment STM32F106VBT6
pins: 1 PE2/TRACECK (io), 2 PE3/TRACED0 (io), 3 PE4/TRACED1 (io), 4 PE5/TRACED2 (io), 5 PE6/TRACED3 (io), 6 V_BAT (power), 7 PC13-TAMPER-RTC (io), 8 PC14-OSC32-IN (io), 9 PC15-OSC32-OUT (io), 10 Vss-5 (power), 11 Vdd-5 (power), 12 OSC-IN (in), 13 OSC-OUT (out), 14 nRST (in), 15 PC0/ADC123_IN10 (io), 16 PC1/ADC123_IN11 (io), 17 PC2/ADC123_IN12 (io), 18 PC3/ADC123_IN13 (io), 19 VssA (power), 20 V_REF- (power), 21 V_REF+ (power), 22 VDDA (power), 23 PA0/USART2_CTS/WKUP (io), 24 PA1/USART2_RTS (io), 25 PA2/USART2_TXD (io), 26 PA3/USART2_RXD (io), 27 Vss-4 (power), 28 Vdd-4 (power), 29 PA4/SPI1_NSS/USART2_CK (io), 30 PA5/SPI1_SCK (io), 31 PA6/SPI1_MISO (io), 32 PA7/SPI1_MOSI (io), 33 PC4 (io), 34 PC5 (io), 35 PB0 (io), 36 PB1 (io), 37 PB2/BOOT1 (io), 38 PE7 (io), 39 PE8 (io), 40 PE9 (io), 41 PE10 (io), 42 PE11 (io), 43 PE12 (io), 44 PE13 (io), 45 PE14 (io), 46 PE15 (io), 47 PB10/USART3_TX (io), 48 PB11/USART3_RX (io), 49 Vss-1 (power), 50 Vdd-1 (power), 51 USART3_CK/PB12 (io), 52 USART3_CTS/PB13 (io), 53 USART3_RTS/PB14 (io), 54 PB15 (io), 55 PD8 (io), 56 PD9 (io), 57 PD10 (io), 58 PD11 (io), 59 PD12 (io), 60 PD13 (io), 61 PD14 (io), 62 PD15 (io), 63 PC6 (io), 64 PC7 (io), 65 PC8 (io), 66 PC9 (io), 67 PA8 (io), 68 USART1_TXD/PA9 (io), 69 USART1_RXD/PA10 (io), 70 USB_D-/PA11 (io), 71 USB_D+/PA12 (io), 72 SWDIO/JTMSPA13 (io), 73 NC (io), 74 Vss-2 (power), 75 Vdd-2 (power), 76 SWCLK/JTCK/PA14 (io), 77 JTDI/PA15 (io), 78 PC10 (io), 79 PC11 (io), 80 PC12 (io), 81 PD0 (io), 82 PD1 (io), 83 PD2 (io), 84 PD3 (io), 85 PD4 (io), 86 PD5 (io), 87 PD6 (io), 88 PD7 (io), 89 JTDO/PB3 (io), 90 JNTRST/PB4 (io), 91 PB5 (io), 92 I2C1_SCL/PB6 (io), 93 I2C1_SDA/PB7 (io), 94 BOOT0 (power), 95 PB8 (io), 96 PB9 (io), 97 PE0 (io), 98 PE1 (io), 99 Vss-3 (power), 100 Vdd-3 (power)

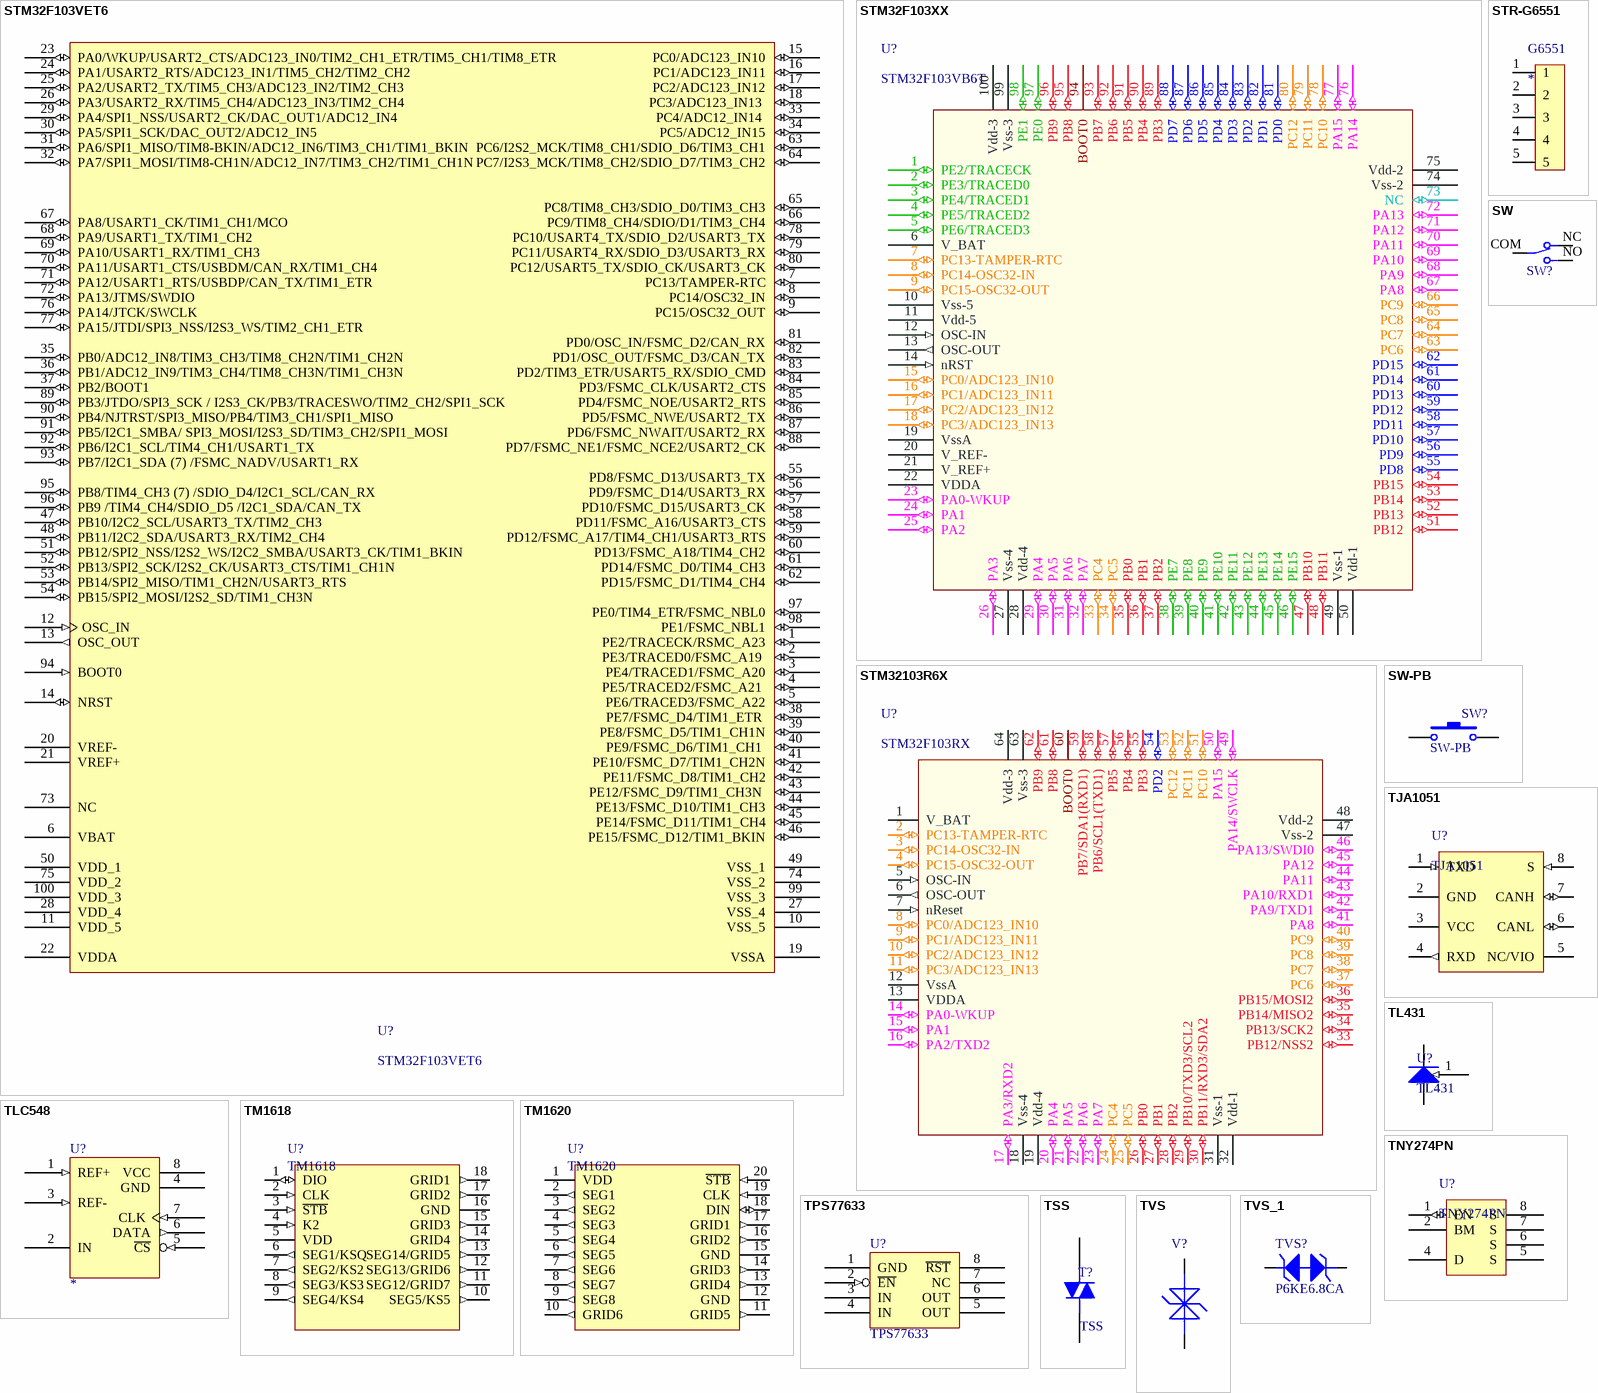
[diagram p11: symbols STM32F103VET6 to TVS_1]

## STM32F103VET6
designator U?
footprint STM32F103VE
pins: 1 PE2/TRACECK/RSMC_A23 (io), 2 PE3/TRACED0/FSMC_A19  (io), 3 PE4/TRACED1/FSMC_A20 (io), 4 PE5/TRACED2/FSMC_A21  (io), 5 PE6/TRACED3/FSMC_A22 (io), 6 VBAT (power), 7 PC13/TAMPER-RTC (io), 8 PC14/OSC32_IN (io), 9 PC15/OSC32_OUT (io), 10 VSS_5 (power), 11 VDD_5 (power), 12 OSC_IN (in), 13 OSC_OUT (out), 14 NRST (io), 15 PC0/ADC123_IN10 (io), 16 PC1/ADC123_IN11 (io), 17 PC2/ADC123_IN12 (io), 18 PC3/ADC123_IN13  (io), 19 VSSA (power), 20 VREF- (power), 21 VREF+ (power), 22 VDDA (power), 23 PA0/WKUP/USART2_CTS/ADC123_IN0/TIM2_CH1_ETR/TIM5_CH1/TIM8_ETR (io), 24 PA1/USART2_RTS/ADC123_IN1/TIM5_CH2/TIM2_CH2 (io), 25 PA2/USART2_TX/TIM5_CH3/ADC123_IN2/TIM2_CH3 (io), 26 PA3/USART2_RX/TIM5_CH4/ADC123_IN3/TIM2_CH4 (io), 27 VSS_4 (power), 28 VDD_4 (power), 29 PA4/SPI1_NSS/USART2_CK/DAC_OUT1/ADC12_IN4 (io), 30 PA5/SPI1_SCK/DAC_OUT2/ADC12_IN5 (io), 31 PA6/SPI1_MISO/TIM8-BKIN/ADC12_IN6/TIM3_CH1/TIM1_BKIN (io), 32 PA7/SPI1_MOSI/TIM8-CH1N/ADC12_IN7/TIM3_CH2/TIM1_CH1N (io), 33 PC4/ADC12_IN14  (io), 34 PC5/ADC12_IN15 (io), 35 PB0/ADC12_IN8/TIM3_CH3/TIM8_CH2N/TIM1_CH2N (io), 36 PB1/ADC12_IN9/TIM3_CH4/TIM8_CH3N/TIM1_CH3N (io), 37 PB2/BOOT1 (io), 38 PE7/FSMC_D4/TIM1_ETR  (io), 39 PE8/FSMC_D5/TIM1_CH1N (io), 40 PE9/FSMC_D6/TIM1_CH1  (io), 41 PE10/FSMC_D7/TIM1_CH2N (io), 42 PE11/FSMC_D8/TIM1_CH2 (io), 43 PE12/FSMC_D9/TIM1_CH3N  (io), 44 PE13/FSMC_D10/TIM1_CH3 (io), 45 PE14/FSMC_D11/TIM1_CH4 (io), 46 PE15/FSMC_D12/TIM1_BKIN (io), 47 PB10/I2C2_SCL/USART3_TX/TIM2_CH3  (io), 48 PB11/I2C2_SDA/USART3_RX/TIM2_CH4 (io), 49 VSS_1 (power), 50 VDD_1 (power), 51 PB12/SPI2_NSS/I2S2_WS/I2C2_SMBA/USART3_CK/TIM1_BKIN (io), 52 PB13/SPI2_SCK/I2S2_CK/USART3_CTS/TIM1_CH1N (io), 53 PB14/SPI2_MISO/TIM1_CH2N/USART3_RTS (io), 54 PB15/SPI2_MOSI/I2S2_SD/TIM1_CH3N (io), 55 PD8/FSMC_D13/USART3_TX (io), 56 PD9/FSMC_D14/USART3_RX (io), 57 PD10/FSMC_D15/USART3_CK (io), 58 PD11/FSMC_A16/USART3_CTS (io), 59 PD12/FSMC_A17/TIM4_CH1/USART3_RTS (io), 60 PD13/FSMC_A18/TIM4_CH2 (io), 61 PD14/FSMC_D0/TIM4_CH3 (io), 62 PD15/FSMC_D1/TIM4_CH4 (io), 63 PC6/I2S2_MCK/TIM8_CH1/SDIO_D6/TIM3_CH1 (io), 64 PC7/I2S3_MCK/TIM8_CH2/SDIO_D7/TIM3_CH2 (io), 65 PC8/TIM8_CH3/SDIO_D0/TIM3_CH3 (io), 66 PC9/TIM8_CH4/SDIO/D1/TIM3_CH4 (io), 67 PA8/USART1_CK/TIM1_CH1/MCO (io), 68 PA9/USART1_TX/TIM1_CH2 (io), 69 PA10/USART1_RX/TIM1_CH3 (io), 70 PA11/USART1_CTS/USBDM/CAN_RX/TIM1_CH4 (io), 71 PA12/USART1_RTS/USBDP/CAN_TX/TIM1_ETR (io), 72 PA13/JTMS/SWDIO (io), 73 NC, 74 VSS_2 (power), 75 VDD_2 (power), 76 PA14/JTCK/SWCLK (io), 77 PA15/JTDI/SPI3_NSS/I2S3_WS/TIM2_CH1_ETR (io), 78 PC10/USART4_TX/SDIO_D2/USART3_TX (io), 79 PC11/USART4_RX/SDIO_D3/USART3_RX (io), 80 PC12/USART5_TX/SDIO_CK/USART3_CK (io), 81 PD0/OSC_IN/FSMC_D2/CAN_RX (io), 82 PD1/OSC_OUT/FSMC_D3/CAN_TX (io), 83 PD2/TIM3_ETR/USART5_RX/SDIO_CMD (io), 84 PD3/FSMC_CLK/USART2_CTS (io), 85 PD4/FSMC_NOE/USART2_RTS (io), 86 PD5/FSMC_NWE/USART2_TX (io), 87 PD6/FSMC_NWAIT/USART2_RX (io), 88 PD7/FSMC_NE1/FSMC_NCE2/USART2_CK (io), 89 PB3/JTDO/SPI3_SCK / I2S3_CK/PB3/TRACESWO/TIM2_CH2/SPI1_SCK (io), 90 PB4/NJTRST/SPI3_MISO/PB4/TIM3_CH1/SPI1_MISO (io), 91 PB5/I2C1_SMBA/ SPI3_MOSI/I2S3_SD/TIM3_CH2/SPI1_MOSI (io), 92 PB6/I2C1_SCL/TIM4_CH1/USART1_TX (io), 93 PB7/I2C1_SDA (7) /FSMC_NADV/USART1_RX (io), 94 BOOT0 (in), 95 PB8/TIM4_CH3 (7) /SDIO_D4/I2C1_SCL/CAN_RX (io), 96 PB9 /TIM4_CH4/SDIO_D5 /I2C1_SDA/CAN_TX (io), 97 PE0/TIM4_ETR/FSMC_NBL0 (io), 98 PE1/FSMC_NBL1 (io), 99 VSS_3 (power), 100 VDD_3 (power)

## STM32F103XX
designator U?, comment STM32F103VB6T
pins: 1 PE2/TRACECK (io), 2 PE3/TRACED0 (io), 3 PE4/TRACED1 (io), 4 PE5/TRACED2 (io), 5 PE6/TRACED3 (io), 6 V_BAT (power), 7 PC13-TAMPER-RTC (io), 8 PC14-OSC32-IN (io), 9 PC15-OSC32-OUT (io), 10 Vss-5 (power), 11 Vdd-5 (power), 12 OSC-IN (in), 13 OSC-OUT (out), 14 nRST (in), 15 PC0/ADC123_IN10 (io), 16 PC1/ADC123_IN11 (io), 17 PC2/ADC123_IN12 (io), 18 PC3/ADC123_IN13 (io), 19 VssA (power), 20 V_REF- (power), 21 V_REF+ (power), 22 VDDA (power), 23 PA0-WKUP (io), 24 PA1 (io), 25 PA2 (io), 26 PA3 (io), 27 Vss-4 (power), 28 Vdd-4 (power), 29 PA4 (io), 30 PA5 (io), 31 PA6 (io), 32 PA7 (io), 33 PC4 (io), 34 PC5 (io), 35 PB0 (io), 36 PB1 (io), 37 PB2 (io), 38 PE7 (io), 39 PE8 (io), 40 PE9 (io), 41 PE10 (io), 42 PE11 (io), 43 PE12 (io), 44 PE13 (io), 45 PE14 (io), 46 PE15 (io), 47 PB10 (io), 48 PB11 (io), 49 Vss-1 (power), 50 Vdd-1 (power), 51 PB12 (io), 52 PB13 (io), 53 PB14 (io), 54 PB15 (io), 55 PD8 (io), 56 PD9 (io), 57 PD10 (io), 58 PD11 (io), 59 PD12 (io), 60 PD13 (io), 61 PD14 (io), 62 PD15 (io), 63 PC6 (io), 64 PC7 (io), 65 PC8 (io), 66 PC9 (io), 67 PA8 (io), 68 PA9 (io), 69 PA10 (io), 70 PA11 (io), 71 PA12 (io), 72 PA13 (io), 73 NC (io), 74 Vss-2 (power), 75 Vdd-2 (power), 76 PA14 (io), 77 PA15 (io), 78 PC10 (io), 79 PC11 (io), 80 PC12 (io), 81 PD0 (io), 82 PD1 (io), 83 PD2 (io), 84 PD3 (io), 85 PD4 (io), 86 PD5 (io), 87 PD6 (io), 88 PD7 (io), 89 PB3 (io), 90 PB4 (io), 91 PB5 (io), 92 PB6 (io), 93 PB7 (io), 94 BOOT0 (power), 95 PB8 (io), 96 PB9 (io), 97 PE0 (io), 98 PE1 (io), 99 Vss-3 (power), 100 Vdd-3 (power)

## STM32103R6X
designator U?, comment STM32F103RX
pins: 1 V_BAT (power), 2 PC13-TAMPER-RTC (io), 3 PC14-OSC32-IN (io), 4 PC15-OSC32-OUT (io), 5 OSC-IN (in), 6 OSC-OUT (out), 7 nReset (in), 8 PC0/ADC123_IN10 (io), 9 PC1/ADC123_IN11 (io), 10 PC2/ADC123_IN12 (io), 11 PC3/ADC123_IN13 (io), 12 VssA (power), 13 VDDA (power), 14 PA0-WKUP (io), 15 PA1 (io), 16 PA2/TXD2 (io), 17 PA3/RXD2 (io), 18 Vss-4 (power), 19 Vdd-4 (power), 20 PA4 (io), 21 PA5 (io), 22 PA6 (io), 23 PA7 (io), 24 PC4 (io), 25 PC5 (io), 26 PB0 (io), 27 PB1 (io), 28 PB2 (io), 29 PB10/TXD3/SCL2 (io), 30 PB11/RXD3/SDA2 (io), 31 Vss-1 (power), 32 Vdd-1 (power), 33 PB12/NSS2 (io), 34 PB13/SCK2 (io), 35 PB14/MISO2 (io), 36 PB15/MOSI2 (io), 37 PC6 (io), 38 PC7 (io), 39 PC8 (io), 40 PC9 (io), 41 PA8 (io), 42 PA9/TXD1 (io), 43 PA10/RXD1 (io), 44 PA11 (io), 45 PA12 (io), 46 PA13/SWDI0 (io), 47 Vss-2 (power), 48 Vdd-2 (power), 49 PA14/SWCLK (io), 50 PA15 (io), 51 PC10 (io), 52 PC11 (io), 53 PC12 (io), 54 PD2 (io), 55 PB3 (io), 56 PB4 (io), 57 PB5 (io), 58 PB6/SCL1(TXD1) (io), 59 PB7/SDA1(RXD1) (io), 60 BOOT0 (power), 61 PB8 (io), 62 PB9 (io), 63 Vss-3 (power), 64 Vdd-3 (power)

## STR-G6551
designator G6551
pins: 1, 2, 3, 4, 5

## SW
designator SW?  (value not drawn)
pins: COM, NC, NO

## SW-PB
designator SW?
Switch; Published: 24-Mar-1999; LatestRevisionDate: 17-Jul-2002
footprint KEY
pins: 1, 2
2 alternate drawings of the same symbol

## TJA1051
designator U?
footprint SO8
pins: 1 TXD (in), 2 GND (power), 3 VCC (power), 4 RXD (out), 5 NC/VIO (power), 6 CANL (io), 7 CANH (io), 8 S (in)

## TL431
designator U?
footprint TO-92
pins: 1 参考 (in), 2 阳极, 3 阴级

## TLC548
designator U?
pins: 1 REF+ (in), 2 IN, 3 REF- (in), 4 GND (power), 5 ~{CS} (in), 6 DATA (out), 7 CLK (in), 8 VCC (power)

## TM1618
designator U?
footprint SOJ-18
pins: 1 DIO (io), 2 CLK (in), 3 ~{STB} (in), 4 K2 (in), 5 VDD (power), 6 SEG1/KSQ (out), 7 SEG2/KS2 (out), 8 SEG3/KS3 (out), 9 SEG4/KS4 (out), 10 SEG5/KS5 (out), 11 SEG12/GRID7 (out), 12 SEG13/GRID6 (out), 13 SEG14/GRID5 (out), 14 GRID4 (out), 15 GRID3 (out), 16 GND (power), 17 GRID2 (out), 18 GRID1 (out)

## TM1620
designator U?
footprint STC-SOP20
pins: 1 VDD (power), 2 SEG1  (out), 3 SEG2  (out), 4 SEG3  (out), 5 SEG4  (out), 6 SEG5  (out), 7 SEG6 (out), 8 SEG7 (out), 9 SEG8 (out), 10 GRID6 (out), 11 GRID5 (out), 12 GND (power), 13 GRID4 (out), 14 GRID3 (out), 15 GND (power), 16 GRID2 (out), 17 GRID1 (out), 18 DIN (io), 19 CLK (in), 20 ~{STB} (in)

## TNY274PN
designator U?
footprint DIP7
pins: 1 EN (io), 2 BM (power), 4 D (power), 5 S (power), 6 S (power), 7 S (power), 8 S (power)

## TPS77633
designator U?
footprint SO8 (Footprint not found)
pins: 1 GND (power), 2 ~{EN} (in), 3 IN (power), 4 IN (power), 5 OUT (power), 6 OUT (power), 7 NC, 8 ~{RST}

## TSS
designator T?
半导体放电管（晶闸管浪涌保护）
footprint LC-SMB(DO-214AA)_N4
pins: 1 T1, 2 T2

## TVS
designator V?, comment SMAJ36CA  (value not drawn)
footprint LC-SMB(DO-214AA)_N4
pins: 1, 2

## TVS_1
designator TVS?, comment P6KE6.8CA
footprint TVSS
pins: A, K
2 alternate drawings of the same symbol

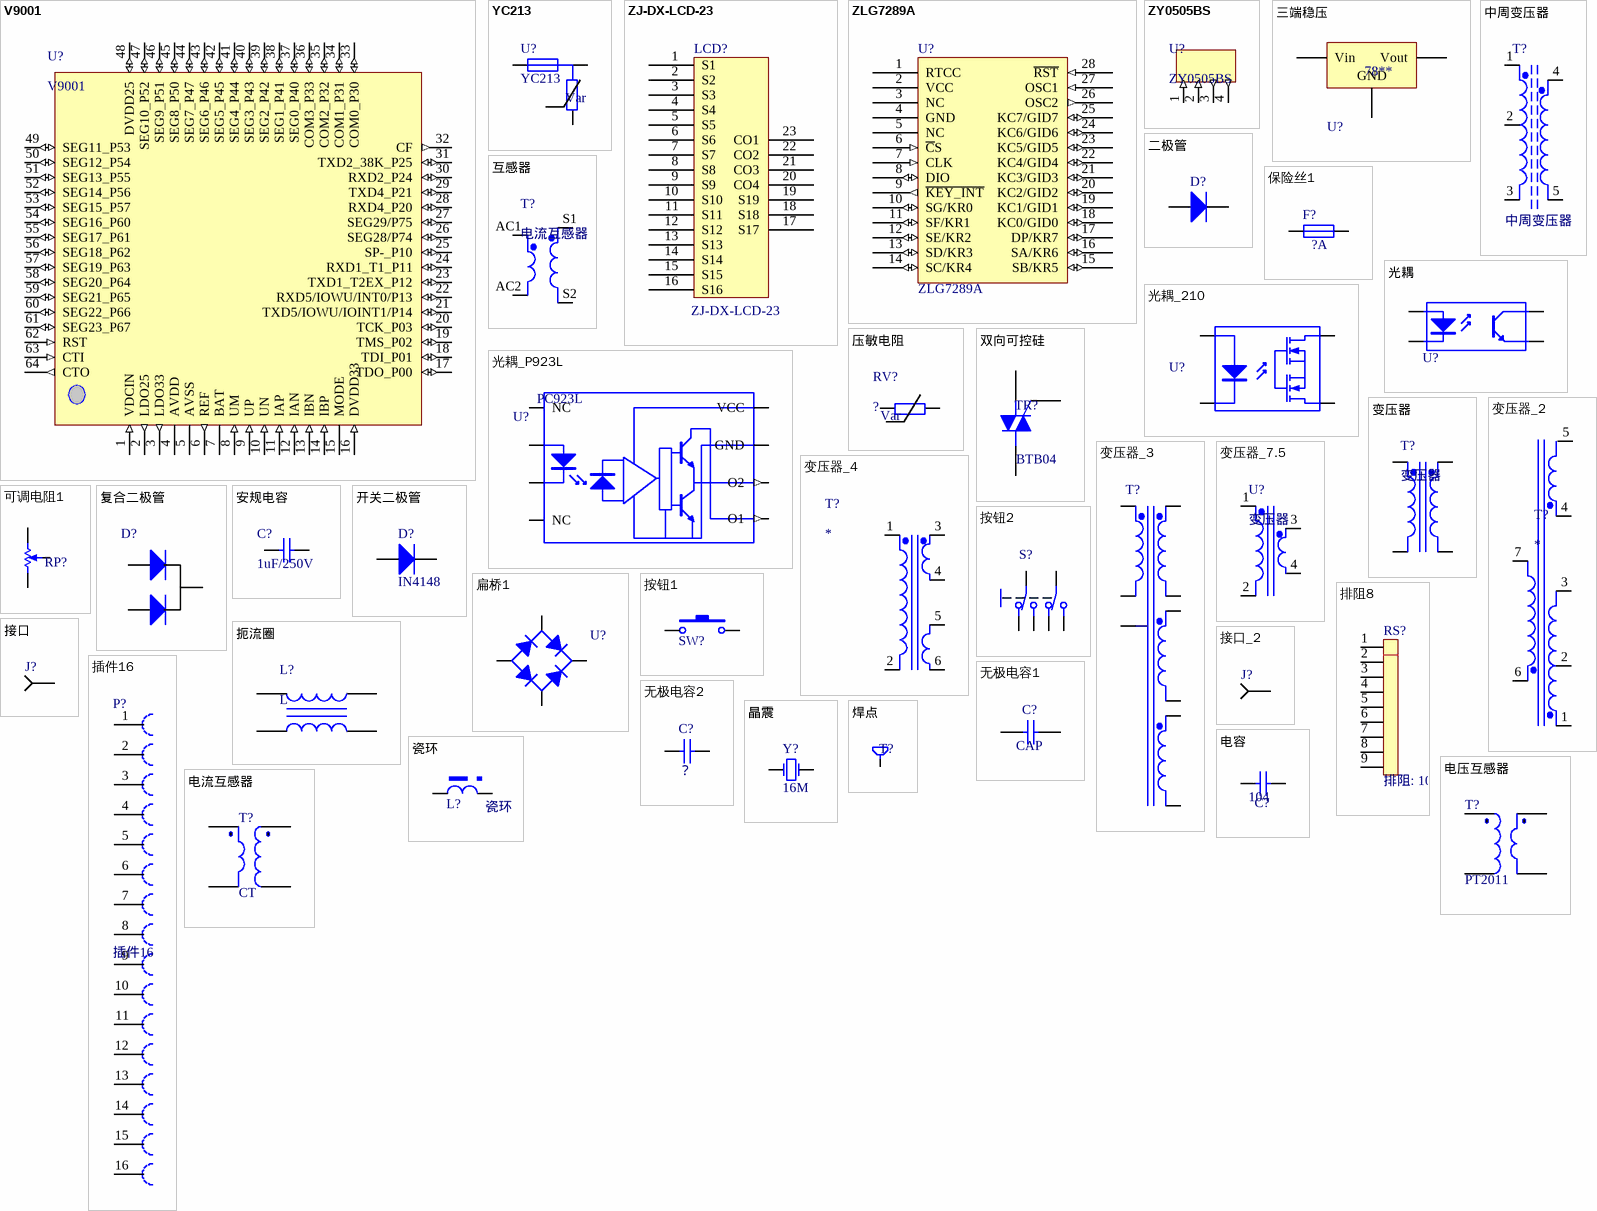
[diagram p12: symbols V9001 to 电流互感器]

## V9001
designator U?
pins: 1 VDCIN (in), 2 LDO25 (out), 3 LDO33 (out), 4 AVDD (power), 5 AVSS (power), 6 REF (out), 7 BAT (power), 8 UM (in), 9 UP (in), 10 UN (in), 11 IAP (in), 12 IAN (in), 13 IBN (in), 14 IBP (in), 15 MODE, 16 DVDD33 (in), 17 TDO_P00 (io), 18 TDI_P01 (io), 19 TMS_P02 (io), 20 TCK_P03 (io), 21 TXD5/IOWU/IOINT1/P14 (io), 22 RXD5/IOWU/INT0/P13 (io), 23 TXD1_T2EX_P12 (io), 24 RXD1_T1_P11 (io), 25 SP-_P10 (io), 26 SEG28/P74 (io), 27 SEG29/P75 (io), 28 RXD4_P20 (io), 29 TXD4_P21 (io), 30 RXD2_P24 (io), 31 TXD2_38K_P25 (io), 32 CF (out), 33 COM0_P30 (io), 34 COM1_P31 (io), 35 COM2_P32 (io), 36 COM3_P33 (io), 37 SEG0_P40 (io), 38 SEG1_P41 (io), 39 SEG2_P42 (io), 40 SEG3_P43 (io), 41 SEG4_P44 (io), 42 SEG5_P45 (io), 43 SEG6_P46 (io), 44 SEG7_P47 (io), 45 SEG8_P50 (io), 46 SEG9_P51 (io), 47 SEG10_P52 (io), 48 DVDD25 (io), 49 SEG11_P53 (io), 50 SEG12_P54 (io), 51 SEG13_P55 (io), 52 SEG14_P56 (io), 53 SEG15_P57 (io), 54 SEG16_P60 (io), 55 SEG17_P61 (io), 56 SEG18_P62 (io), 57 SEG19_P63 (io), 58 SEG20_P64 (io), 59 SEG21_P65 (io), 60 SEG22_P66 (io), 61 SEG23_P67 (io), 62 RST (in), 63 CTI (in), 64 CTO (out)

## YC213
designator U?
footprint YC213
pins: 1, 2, 3
text: Var

## ZJ-DX-LCD-23
designator LCD?
footprint THR2775
pins: 1 S1, 2 S2, 3 S3, 4 S4, 5 S5, 6 S6, 7 S7, 8 S8, 9 S9, 10 S10, 11 S11, 12 S12, 13 S13, 14 S14, 15 S15, 16 S16, 17 S17, 18 S18, 19 S19, 20 CO4, 21 CO3, 22 CO2, 23 CO1
2 alternate drawings of the same symbol

## ZLG7289A
designator U?
footprint SOP28
pins: 1 RTCC (power), 2 VCC (power), 3 NC, 4 GND (power), 5 NC, 6 ~{C}S (in), 7 CLK (in), 8 DIO (io), 9 ~{KEY_INT} (out), 10 SG/KR0 (io), 11 SF/KR1 (io), 12 SE/KR2 (io), 13 SD/KR3 (io), 14 SC/KR4 (io), 15 SB/KR5 (io), 16 SA/KR6 (io), 17 DP/KR7 (io), 18 KC0/GID0 (io), 19 KC1/GID1 (io), 20 KC2/GID2 (io), 21 KC3/GID3 (io), 22 KC4/GID4 (io), 23 KC5/GID5 (io), 24 KC6/GID6 (io), 25 KC7/GID7 (io), 26 OSC2 (out), 27 OSC1 (in), 28 ~{RST} (in)

## ZY0505BS
designator U?
pins: 1 GND1 (in), 2 +5V (in), 3 +5V' (out), 4 GND' (out)

## 三端稳压
designator U?, comment 78**
footprint LC-SOT-23-3
pins: 1 Vin, 2 Vout, 3 GND

## 中周变压器
designator T?
pins: 1, 2, 3, 4, 5

## 二极管
designator D?, comment IN4007  (value not drawn)
footprint 1206D
pins: 1, 2

## 互感器
designator T?, comment 电流互感器
pins: AC1 1, AC2 2, S1 3, S2 4

## 保险丝1
designator F?, comment ?A
footprint STF9-160 (上海电器陶瓷厂)
pins: 1, 2

## 光耦
designator U?, comment PC817  (value not drawn)
footprint DIP4
footprint OP181
pins: 1 A "Anode", 2 K "Cathode", 3 E "Emitter", 4 C "Collector"

## 光耦_210
designator U?, comment AQY210  (value not drawn)
footprint LC-SMD-4
pins: 1 A "Anode", 2 K "Cathode", 3 E "Emitter", 4 C "Collector"

## 光耦_P923L
designator U?, comment PC923L
footprint LC-SMD-8_6.3mm
pins: 1 NC "Anode", 2 A "Cathode", 3 C "Emitter", 4 NC "Collector", 5 O1 (out) "Collector", 6 O2 (out) "Collector", 7 GND (power) "Collector", 8 VCC (power) "Collector"

## 压敏电阻
designator RV?, comment ?
footprint RB-YM
pins: 1, 2
text: Var

## 双向可控硅
designator TR?, comment BTB04
footprint TO-252-S
pins: 1 T1, 2 T2, 3 G

## 变压器
designator T?
footprint EE16
pins: 1, 2, 3, 4

## 变压器_2
designator T?
footprint EE19
pins: 1, 2, 3, 4, 5, 6, 7

## 变压器_3
designator T?  (value not drawn)
footprint T_BYQ
pins: 6 Sec1+, 7 AC1, 8 AC2, 9 Sec1+, 10 Sec1-, 12 Sec2+, 13 Sec2-, 15 Sec3+, 16 Sec3-

## 变压器_4
designator T?
footprint EE_ZR04
pins: 1, 2, 3, 4, 5, 6

## 变压器_7.5
designator U?, comment 变压器
footprint EE_7.5
pins: 1, 2, 3, 4

## 可调电阻1
designator RP?, comment RP  (value not drawn)
footprint VR5
pins: 1, 2, 3

## 复合二极管
designator D?  (value not drawn)
footprint LC-TO-247(AC) - B
pins: 1, 2, 3

## 安规电容
designator C?, comment 1uF/250V
footprint RB-AG
pins: 1, 2

## 开关二极管
designator D?  (value not drawn)
footprint LC-0805_D
pins: A 1, K 2
text: IN4148

## 扁桥1
designator U?, comment D  (value not drawn)
footprint D-71
pins: +, -, AC1, AC2

## 扼流圈
designator L?, comment L
footprint 扼流圈
pins: 1, 2, 3, 4

## 按钮1
designator SW?, comment AN  (value not drawn)
footprint KEY-T
pins: 1, 2

## 按钮2
designator S?, comment SW2  (value not drawn)
footprint SW2_6
pins: 1, 2, 3, 4, 5, 6

## 排阻8
designator RS?, comment 排阻: 103  (hidden comment: 10K*8)
footprint HDR1X9 (Connector; Header; 9 Position)
pins: 1, 2, 3, 4, 5, 6, 7, 8, 9

## 接口
designator J?  (value not drawn)
footprint JK1
pins: 1

## 接口_2
designator J?  (value not drawn)
footprint JK2
pins: 1

## 插件16
designator P?
footprint finger
pins: 1, 2, 3, 4, 5, 6, 7, 8, 9, 10, 11, 12, 13, 14, 15, 16

## 无极电容1
designator C?, comment CAP
footprint CS8.0
pins: 1, 2

## 无极电容2
designator C?, comment CAP  (value not drawn)
footprint CBB5.08
pins: 1, 2
text: ？

## 晶震
designator Y?, comment OSC  (value not drawn)
footprint HC-49
pins: 1, 2
text: 16M

## 焊点
designator T?
footprint DOT
pins: 1
2 alternate drawings of the same symbol

## 瓷环
designator L?
footprint CT2011 (5A/2,5mA)
pins: 1, 2

## 电压互感器
designator T?, comment PT2011
Value: 2ma/2ma
footprint ZMPT107
pins: 1, 2, 3, 4

## 电容
designator C?, comment 104
value: 104
footprint 0805
pins: 1, 2

## 电流互感器
designator T?, comment CT
footprint CT2/4
pins: 1, 2, 3, 4

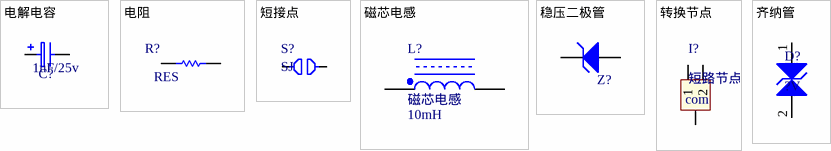
[diagram p13: symbols 电解电容 to 齐纳管]

## 电解电容
designator C?, comment 1uF/25v
footprint RB.1/.2
pins: 1, 2

## 电阻
designator R?, comment RES
value: 1k
footprint 0805
pins: 1, 2

## 短接点
designator S?, comment SJ
footprint SJ (短接点)
pins: 1, 2
2 alternate drawings of the same symbol

## 磁芯电感
designator L?  value 10mH
Isolated Inductor
footprint INDP265205X180N (Precision Wire Wound Inductor, 2-Leads, Body 26.5x20.5mm, IPC Medium Density)
pins: 1, 2

## 稳压二极管
designator Z?  (value not drawn)
footprint D5.08
footprint LC-0805_D
pins: A, K

## 转换节点
designator I?, comment 短路节点
footprint SO_XZ
pins: 1, 2, com

## 齐纳管
designator D?, comment ?V
pins: 1 A, 2 A